# EAGLE library part A-564 (library led-seg)
Para Light A-564x Four digits 7seg display Common anode. 50x19 mm place. 14.22mm (560 mil) digit height 2009 Draw by Ivan A-R <http://tuxotronic.org>. License CC-BY-SA 3.0 <http://creativecommons.org/licenses/by-sa/3.0/>
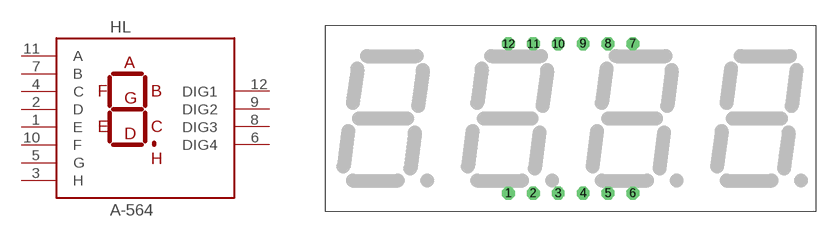
[diagram p3: symbol with the pads of C/A-564; footprint C/A-564]

Designator prefix HL

## A-564E, A-564G, A-564H, A-564SR, A-564Y  [C/A-564]
1  E  in
2  D  in
3  H  in
4  C  in
5  G  in
6  DIG4  in
7  B  in
8  DIG3  in
9  DIG2  in
10  F  in
11  A  in
12  DIG1  in

## Footprint C/A-564 (pad centres in mm)
drill 0.8 octagon: 1 -6.35,-7.62; 2 -3.81,-7.62; 3 -1.27,-7.62; 4 1.27,-7.62; 5 3.81,-7.62; 6 6.35,-7.62; 7 6.35,7.62; 8 3.81,7.62; 9 1.27,7.62; 10 -1.27,7.62; 11 -3.81,7.62; 12 -6.35,7.62